# EAGLE library part SM_SWITCH_SMQS-04R-TP (library LARS_409_SWITCH)
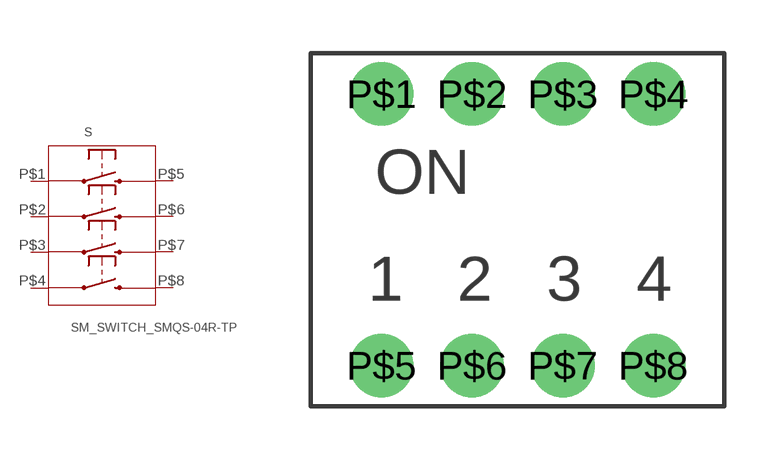
[diagram p1: symbol with the pads of SM_SWITCH_SMQS-04R-TP; footprint SM_SWITCH_SMQS-04R-TP]

Designator prefix S

## SM_SWITCH_SMQS-04R-TP  [SM_SWITCH_SMQS-04R-TP]
P$1  1  pas
P$2  2  pas
P$3  3  pas
P$4  4  pas
P$5  5  pas
P$6  6  pas
P$7  7  pas
P$8  8  pas

## Footprint SM_SWITCH_SMQS-04R-TP (pad centres in mm)
drill 1 pad 1.778: P$1 -3.81,3.81; P$2 -1.27,3.81; P$3 1.27,3.81; P$4 3.81,3.81; P$5 -3.81,-3.81; P$6 -1.27,-3.81; P$7 1.27,-3.81; P$8 3.81,-3.81